# EAGLE library part TPS54061 (library dc-dc-regulators)
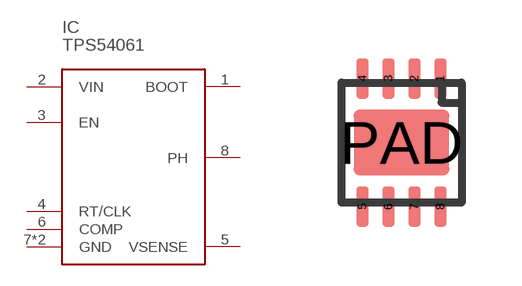
[diagram p2: symbol with the pads of WSON8; footprint WSON8]

Designator prefix IC

## TPS54061  [WSON8]
1  BOOT
2  VIN
3  EN
4  RT/CLK
5  VSENSE
6  COMP
7  GND
8  PH
PAD  GND

## Footprint WSON8 (pad centres in mm)
smd 0.3 x 1: 1 0.975,1.6; 2 0.325,1.6; 3 -0.325,1.6; 4 -0.975,1.6; 5 -0.975,-1.6; 6 -0.325,-1.6; 7 0.325,-1.6; 8 0.975,-1.6
smd 2.4 x 1.65: PAD 0,0